# Altium integrated library ONS NCV7729-D.IntLib: 2 symbols
Pins are listed as number, name and electrical type; pins without a type are passive.

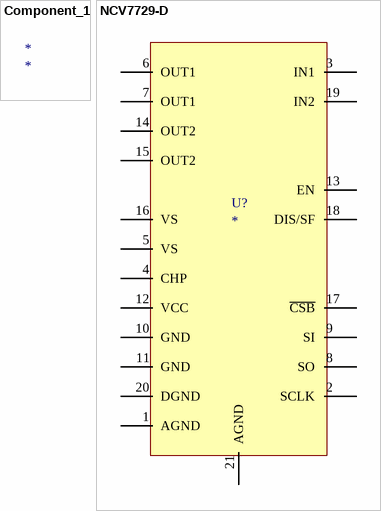
[diagram p0: symbols Component_1 to NCV7729-D]

## Component_1
designator *

## NCV7729-D
designator U?
SPI Controlled Fully Protected H-Bridge Driver
footprint PSOP20_M (20-Pin Small Outline Integrated Circuit 1.27 mm Pitch, IPC Low Density)
pins: 1 AGND (power), 2 SCLK (in), 3 IN1 (in), 4 CHP (io), 5 VS (power), 6 OUT1 (out), 7 OUT1 (out), 8 SO (out), 9 SI (in), 10 GND (power), 11 GND (power), 12 VCC (power), 13 EN (in), 14 OUT2 (out), 15 OUT2 (out), 16 VS (power), 17 ~{CSB} (in), 18 DIS/SF (oc), 19 IN2 (in), 20 DGND (power), 21 AGND (power)